# Altium integrated library diode-sma.IntLib: 1 symbol
Pins are listed as number, name and electrical type; pins without a type are passive.

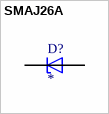
[diagram p0: symbol SMAJ26A]

## SMAJ26A
designator D?
400W, 30.4V, 5%, Unidirectional, TVS; MF: Taiwan Semiconductor; MP: SMAJ26A; SnapEDA_Link: https://www.snapeda.com/parts/SMAJ26A/taiwan/view-part/?ref=snap; Package: SMA-2 Taiwan Semiconductor; Value: *; Check_prices: https://www.snapeda.com/parts/SMAJ26A/taiwan/view-part/?ref=eda
footprint DIOM4325X250N
pins: A, C